# Altium footprint library DF632P396DSA.PcbLib: 1 footprints
Each footprint in its own frame and in the unit in brackets; x right, y up, seen from the top. Pads: shape width x height; smd on the part's side, far side on the other; paste and mask are expansions set on the pad; w line width, h text height; cw(c..) or ccw(c..) is an arc to the next point about the centre after c.
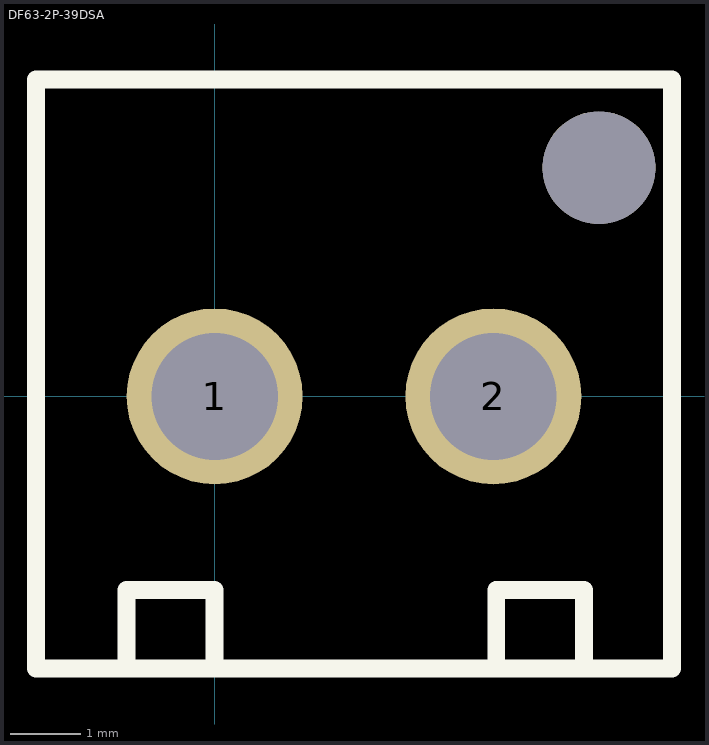
[diagram p0: the footprint, top view; thin cyan lines are the x and y axes]

## DF63-2P-39DSA [mm]
pads (3):
  round 2.5 hole 1.8: 1(0,0) 2(3.96,0)
  round 1.6 hole 1.6: ""(5.46,3.25)
Top Overlay:
  lines w0.254: -1.25,-3.75 -1.25,-2.75 0,-2.75 0,-3.75 ; 4,-3.75 4,-2.75 5.25,-2.75 5.25,-3.75 ; -2.54,-3.864 -2.54,4.5 6.5,4.5 6.5,-3.864 -2.54,-3.864